# Altium schematic symbol library UCC27537.SchLib: 1 symbol
Pins are listed as number, name and electrical type; pins without a type are passive.

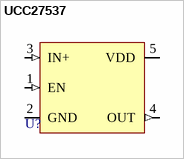
[diagram p0: symbol UCC27537]

## UCC27537
designator U?
pins: 1 EN (in), 2 GND (power), 3 IN+ (in), 4 OUT (out), 5 VDD (power)